# Altium schematic symbol library Big Easy Driver.SchLib: 1 symbol
Pins are listed as number, name and electrical type; pins without a type are passive.

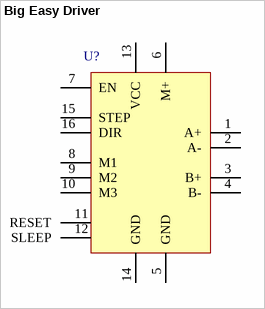
[diagram p0: symbol Big Easy Driver]

## Big Easy Driver
designator U?  (value not drawn)
pins: 1 A+, 2 A-, 3 B+, 4 B-, 5 GND, 6 M+, 7 EN, 8 M1, 9 M2, 10 M3, 11 RESET, 12 SLEEP, 13 VCC, 14 GND, 15 STEP, 16 DIR